# Altium integrated library Connectors.IntLib: 45 symbols
Pins are listed as number, name and electrical type; pins without a type are passive.

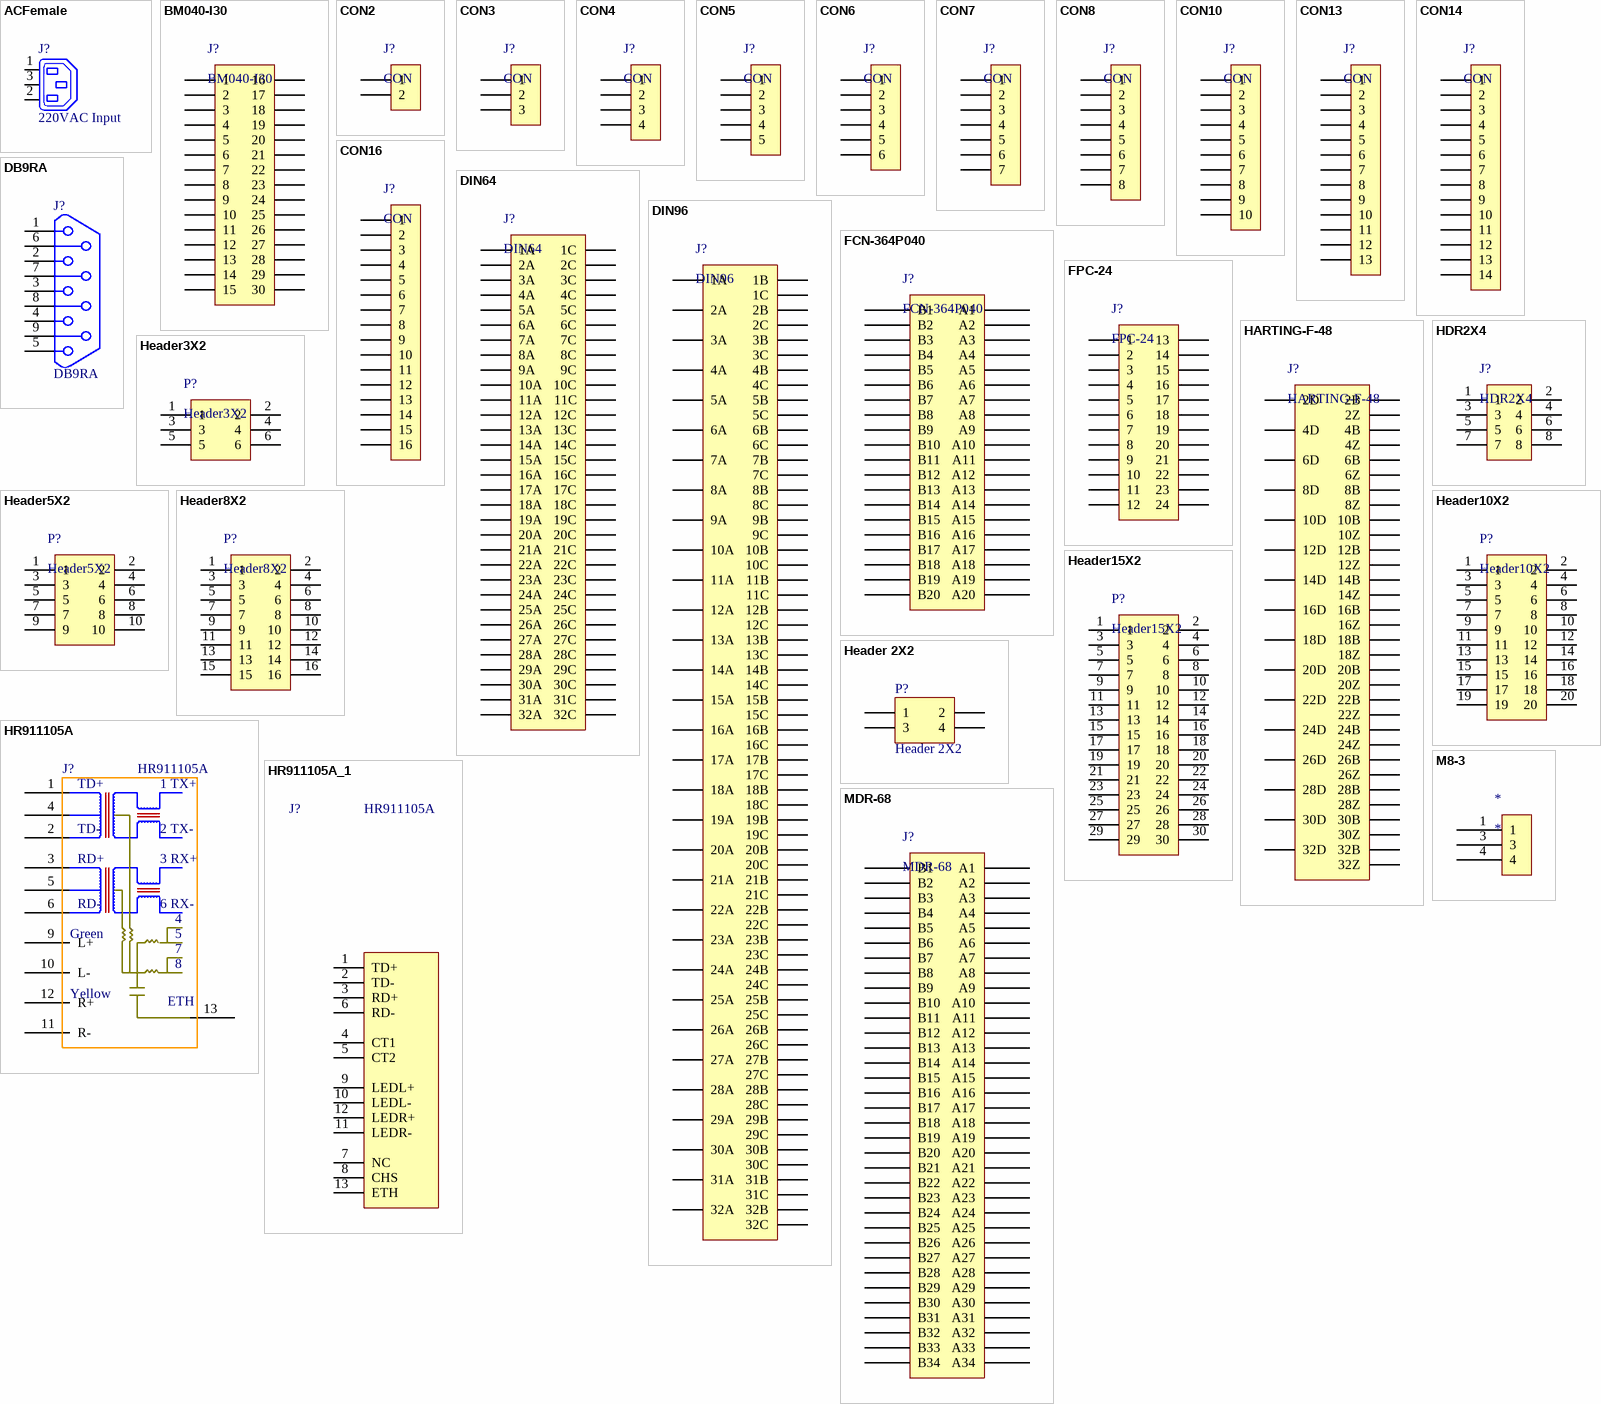
[diagram p0: symbols ACFemale to MDR-68]

## ACFemale
designator J?, comment 220VAC Input
IEC Mains Power Outlet, EN60 320-2-2 F Class I, PC Flange Rear Mount, Chassis Socket; PackageDocument: ver.80, 15-Sep-2003; MaximumRating: 10A, 250V a.c. (UL & CSA 15A, 250V a.c.); MountingFixtures: Not drawn on schematic symbol.; PCB_Layout: Complies with manufacturer's recommendation.; DrillSize: Corresponds to nominal value.; Published: 15-Jul-2004; LatestRevisionDate: 15-Jul-2004; LatestRevisionNote: Component Replaced & renamed from "Phonejack".; DatasheetDocument: ver.80, 15-Sep-2003; PackageReference: PX0675/PC; Publisher: Altium Limited; Terminations: P.C. Spills; ComponentLink1Description: Manufacturer Link; ComponentLink1URL: http://www.bulgin.co.uk/
footprint ACFemale (Plug AC Female)
pins: 1 L (power) "Live (Active)", 2 N (power) "Neutral", 3 E (power) "Earth (Ground)"

## BM040-I30
designator J?
footprint BM040-I30-F
footprint BM040-I30-M
pins: 1, 2, 3, 4, 5, 6, 7, 8, 9, 10, 11, 12, 13, 14, 15, 16, 17, 18, 19, 20, 21, 22, 23, 24, 25, 26, 27, 28, 29, 30

## CON2
designator J?, comment CON
footprint CON2 (connector ,2Pin,5.08mm)
footprint T-2 (RESET 2)
footprint TS-2 (1.6*0.8mm)
footprint CON2-L (connector ,2Pin,5.08mm)
footprint HDR2 (connector ,2Pin,5.08mm)
footprint CON2-T (connector ,2Pin,5.08mm)
footprint CON2-K (connector ,2Pin,5.08mm)
footprint KF2510-2P
pins: 1, 2

## CON3
designator J?, comment CON
footprint CON3 (connector ,3Pin,5mm)
footprint KF2510-3P
pins: 1, 2, 3

## CON4
designator J?, comment CON
footprint CON4 (connector ,3Pin,5mm)
footprint FPC-1.0-4-S
footprint CON4-L
footprint KF2510-4P
footprint BIG-4P-5.08-1.27
footprint J-F-2.54-4-B (SIP; 4 Lead RightAngle; Pitch 2.54mm;)
pins: 1, 2, 3, 4

## CON5
designator J?, comment CON
footprint CON5 (connector ,5Pin,5mm)
footprint KF2510-5P
pins: 1, 2, 3, 4, 5

## CON6
designator J?, comment CON
footprint CON6 (connector ,3Pin,5mm)
footprint KF2510-6P
pins: 1, 2, 3, 4, 5, 6

## CON7
designator J?, comment CON
footprint CON7-K (connector ,7Pin,5.08mm)
pins: 1, 2, 3, 4, 5, 6, 7

## CON8
designator J?, comment CON
footprint CON8 (connector ,8Pin,5.08mm)
pins: 1, 2, 3, 4, 5, 6, 7, 8

## CON10
designator J?, comment CON
footprint CON10-T (connector ,2Pin,5.08mm)
footprint CON10-K (connector ,2Pin,5.08mm)
pins: 1, 2, 3, 4, 5, 6, 7, 8, 9, 10

## CON13
designator J?, comment CON
footprint CONL13 (connector ,8Pin,5.08mm)
pins: 1, 2, 3, 4, 5, 6, 7, 8, 9, 10, 11, 12, 13

## CON14
designator J?, comment CON
footprint CONL14 (connector ,14Pin,3.81mm)
footprint CONL14-M (connector ,14Pin,3.81mm)
pins: 1, 2, 3, 4, 5, 6, 7, 8, 9, 10, 11, 12, 13, 14

## CON16
designator J?, comment CON
footprint CONL16 (connector ,16Pin,3.81mm)
footprint CONL16-M (connector ,16Pin,3.81mm)
pins: 1, 2, 3, 4, 5, 6, 7, 8, 9, 10, 11, 12, 13, 14, 15, 16

## DB9RA
designator J?
footprint DB9RA/F (DB9RA/M FEMALE)
footprint DB9RA/M (DB9RA/M MALE)
footprint DB9/F
footprint DB9/M
pins: 1, 2, 3, 4, 5, 6, 7, 8, 9

## DIN64
designator J?
footprint DIN64RA
footprint DIN64/F
pins: 1A, 1C, 2A, 2C, 3A, 3C, 4A, 4C, 5A, 5C, 6A, 6C, 7A, 7C, 8A, 8C, 9A, 9C, 10A, 10C, 11A, 11C, 12A, 12C, 13A, 13C, 14A, 14C, 15A, 15C, 16A, 16C, 17A, 17C, 18A, 18C, 19A, 19C, 20A, 20C, 21A, 21C, 22A, 22C, 23A, 23C, 24A, 24C, 25A, 25C, 26A, 26C, 27A, 27C, 28A, 28C, 29A, 29C, 30A, 30C, 31A, 31C, 32A, 32C

## DIN96
designator J?
footprint DIN96/M
footprint DIN96RA
pins: 1A, 1B, 1C, 2A, 2B, 2C, 3A, 3B, 3C, 4A, 4B, 4C, 5A, 5B, 5C, 6A, 6B, 6C, 7A, 7B, 7C, 8A, 8B, 8C, 9A, 9B, 9C, 10A, 10B, 10C, 11A, 11B, 11C, 12A, 12B, 12C, 13A, 13B, 13C, 14A, 14B, 14C, 15A, 15B, 15C, 16A, 16B, 16C, 17A, 17B, 17C, 18A, 18B, 18C, 19A, 19B, 19C, 20A, 20B, 20C, 21A, 21B, 21C, 22A, 22B, 22C, 23A, 23B, 23C, 24A, 24B, 24C, 25A, 25B, 25C, 26A, 26B, 26C, 27A, 27B, 27C, 28A, 28B, 28C, 29A, 29B, 29C, 30A, 30B, 30C, 31A, 31B, 31C, 32A, 32B, 32C

## FCN-364P040
designator J?
footprint FCN-364P040
pins: A1, A2, A3, A4, A5, A6, A7, A8, A9, A10, A11, A12, A13, A14, A15, A16, A17, A18, A19, A20, B1, B2, B3, B4, B5, B6, B7, B8, B9, B10, B11, B12, B13, B14, B15, B16, B17, B18, B19, B20

## FPC-24
designator J?
footprint FPC-24
pins: 1, 2, 3, 4, 5, 6, 7, 8, 9, 10, 11, 12, 13, 14, 15, 16, 17, 18, 19, 20, 21, 22, 23, 24

## HARTING-F-48
designator J?
footprint DIN48RA
footprint F 09 06 048 2905 (Harting Type F 09 06 048 2905)
footprint F 09 06 248 6834 (Harting Type F 09 06 248 6834)
pins: 2B, 2D, 2Z, 4B, 4D, 4Z, 6B, 6D, 6Z, 8B, 8D, 8Z, 10B, 10D, 10Z, 12B, 12D, 12Z, 14B, 14D, 14Z, 16B, 16D, 16Z, 18B, 18D, 18Z, 20B, 20D, 20Z, 22B, 22D, 22Z, 24B, 24D, 24Z, 26B, 26D, 26Z, 28B, 28D, 28Z, 30B, 30D, 30Z, 32B, 32D, 32Z

## HDR2X4
designator J?
HDR2X4 5.08mm
footprint HDR2X4 (HDR2X4 5.08mm)
pins: 1, 2, 3, 4, 5, 6, 7, 8

## Header3X2
designator P?
footprint SEK2X3 (Connector; Header; 3x2 Position)
pins: 1, 2, 3, 4, 5, 6

## Header5X2
designator P?
footprint SEK2X5 (Connector; Header; 5x2 Position)
footprint SEK2X5-L (Connector; Header; 5x2 Position)
footprint SEK2X5-L-1 (Connector; Header; 5x2 Position)
pins: 1, 2, 3, 4, 5, 6, 7, 8, 9, 10

## Header8X2
designator P?
Header10X2
footprint SEK2X8 (Connector; Header; 2X8 Position)
pins: 1, 2, 3, 4, 5, 6, 7, 8, 9, 10, 11, 12, 13, 14, 15, 16

## Header10X2
designator P?
footprint HDR2X10 (Connector; Header; 10x2 Position)
footprint SEK2X10 (Connector; Header; 10x2 Position)
pins: 1, 2, 3, 4, 5, 6, 7, 8, 9, 10, 11, 12, 13, 14, 15, 16, 17, 18, 19, 20

## Header15X2
designator P?
footprint SEK2X15 (Connector; Header; 15x2 Position)
pins: 1, 2, 3, 4, 5, 6, 7, 8, 9, 10, 11, 12, 13, 14, 15, 16, 17, 18, 19, 20, 21, 22, 23, 24, 25, 26, 27, 28, 29, 30

## Header 2X2
designator P?
Header, 2-Pin, Dual row; LatestRevisionDate: 17-Jul-2002; LatestRevisionNote: Re-released for DXP Platform.; Publisher: Altium Limited
footprint HDR2X2
pins: 1, 2, 3, 4

## HR911105A
designator J?
footprint HR911105A
pins: 1, 2, 3, 4, 5, 6, 9 L+, 10 L-, 11 R-, 12 R+, 13
text: TD+; 1 TX+; TD-; 2 TX-; RD+; 3 RX+; RD-; 6 RX-; Green; 7; 8; Yellow; ETH

## HR911105A_1
designator J?, comment HR911105A
footprint HR911105A
pins: 1 TD+, 2 TD-, 3 RD+, 4 CT1, 5 CT2, 6 RD-, 7 NC, 8 CHS, 9 LEDL+, 10 LEDL-, 11 LEDR-, 12 LEDR+, 13 ETH

## M8-3
designator *
footprint M8-3
footprint M8-3H
pins: 1, 3, 4

## MDR-68
designator J?
footprint MDR-68-F
pins: A1, A2, A3, A4, A5, A6, A7, A8, A9, A10, A11, A12, A13, A14, A15, A16, A17, A18, A19, A20, A21, A22, A23, A24, A25, A26, A27, A28, A29, A30, A31, A32, A33, A34, B1, B2, B3, B4, B5, B6, B7, B8, B9, B10, B11, B12, B13, B14, B15, B16, B17, B18, B19, B20, B21, B22, B23, B24, B25, B26, B27, B28, B29, B30, B31, B32, B33, B34

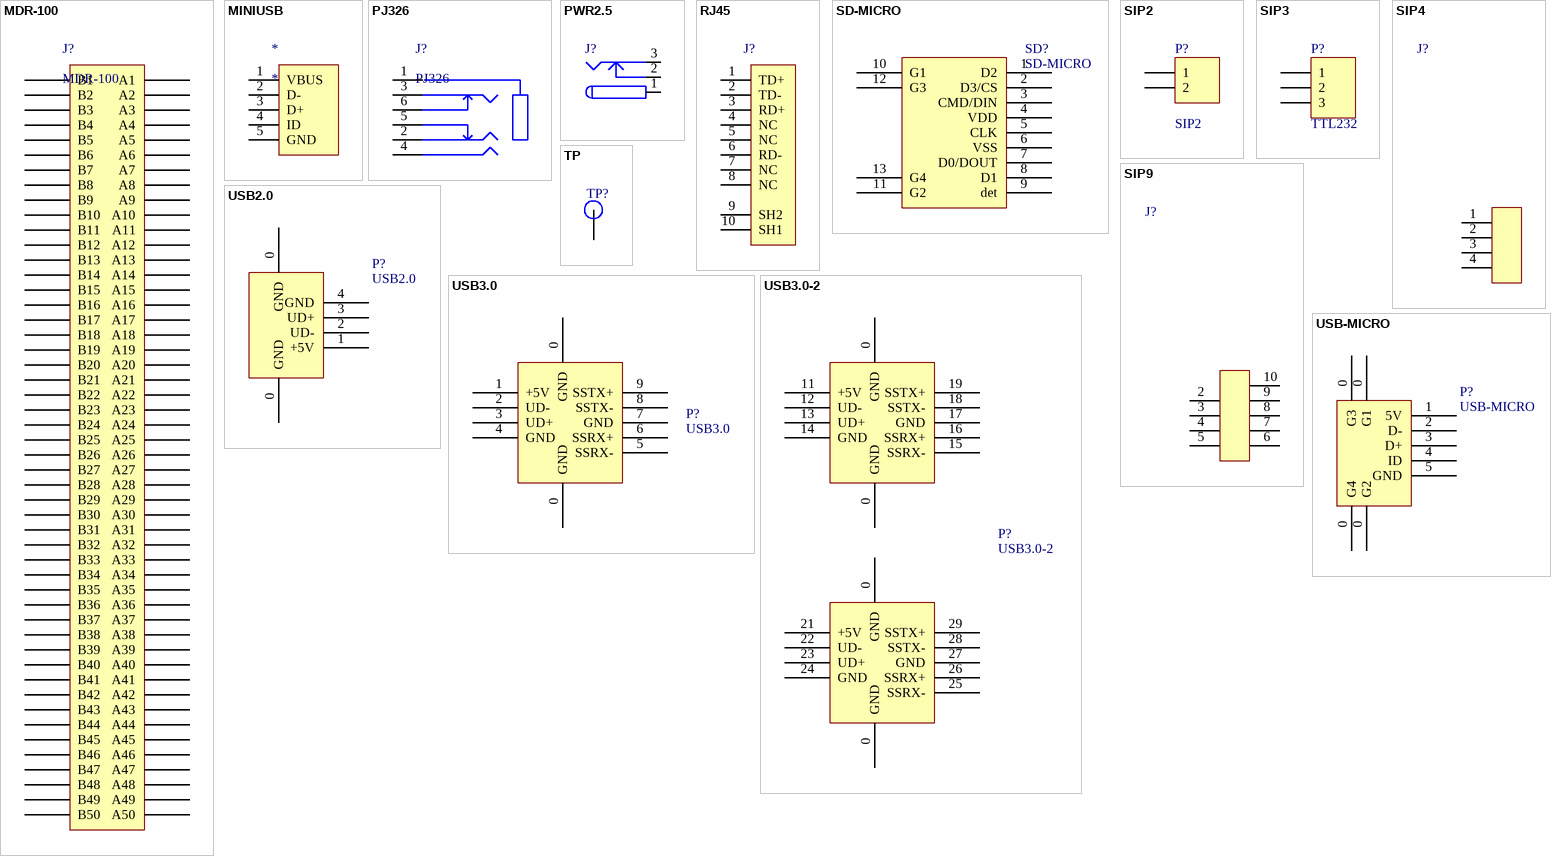
[diagram p1: symbols MDR-100 to USB-MICRO]

## MDR-100
designator J?
footprint MDR-100-M
pins: A1, A2, A3, A4, A5, A6, A7, A8, A9, A10, A11, A12, A13, A14, A15, A16, A17, A18, A19, A20, A21, A22, A23, A24, A25, A26, A27, A28, A29, A30, A31, A32, A33, A34, A35, A36, A37, A38, A39, A40, A41, A42, A43, A44, A45, A46, A47, A48, A49, A50, B1, B2, B3, B4, B5, B6, B7, B8, B9, B10, B11, B12, B13, B14, B15, B16, B17, B18, B19, B20, B21, B22, B23, B24, B25, B26, B27, B28, B29, B30, B31, B32, B33, B34, B35, B36, B37, B38, B39, B40, B41, B42, B43, B44, B45, B46, B47, B48, B49, B50

## MINIUSB
designator *
footprint USBfoot
pins: 1 VBUS, 2 D-, 3 D+, 4 ID, 5 GND

## PJ326
designator J?
footprint PJ326 (3.5mm)
pins: 1, 2, 3, 4, 5, 6

## PWR2.5
designator J?
Low Voltage Power Supply Connector; Published: 17-Dec-2003; DatasheetDocument: 09-May-2002; Publisher: Altium Limited; ComponentLink1Description: Manufacturer Link; ComponentLink1URL: http://domino.kycon.com/internet/Products.html
footprint PWR2.5
pins: 1, 2, 3

## RJ45
designator J?  (value not drawn)
footprint RJ45
pins: 1 TD+, 2 TD-, 3 RD+, 4 NC, 5 NC, 6 RD-, 7 NC, 8 NC, 9 SH2, 10 SH1

## SD-MICRO
designator SD?
footprint TFP09-2-12B
pins: 1 D2, 2 D3/CS, 3 CMD/DIN, 4 VDD, 5 CLK, 6 VSS, 7 D0/DOUT, 8 D1, 9 det, 10 G1 (power), 11 G2 (power), 12 G3 (power), 13 G4 (power)

## SIP2
designator P?
footprint SIP-2-2.54
pins: 1, 2

## SIP3
designator P?, comment TTL232
SIP3
footprint SIP3
pins: 1, 2, 3

## SIP4
designator J?
SIP4
footprint HDR-4H (单排弯脚排针，4脚)
pins: 1, 2, 3, 4

## SIP9
designator J?
footprint HDR-5X2H (双排弯脚排针，5x2脚)
pins: 2, 3, 4, 5, 6, 7, 8, 9, 10

## TP
designator TP?  (value not drawn)
footprint TP (test)
pins: 1

## USB2.0
designator P?
USB Port
footprint USB2.0-1
footprint USB2.0-A/S_A (A型直插母头)
pins: 0 GND (power), 0 GND (power), 1 +5V, 2 UD-, 3 UD+, 4 GND

## USB3.0
designator P?
USB3.0 Port
footprint USB3.0-1
pins: 0 GND (power), 0 GND (power), 1 +5V (power), 2 UD-, 3 UD+, 4 GND (power), 5 SSRX- (power), 6 SSRX+ (power), 7 GND, 8 SSTX-, 9 SSTX+ (power)

## USB3.0-2
designator P?
USB3.0 Port - 2
footprint USB3.0-2-90D
pins: 0 GND (power), 0 GND (power), 0 GND (power), 0 GND (power), 11 +5V (power), 12 UD-, 13 UD+, 14 GND (power), 15 SSRX- (power), 16 SSRX+ (power), 17 GND, 18 SSTX-, 19 SSTX+ (power), 21 +5V (power), 22 UD-, 23 UD+, 24 GND (power), 25 SSRX- (power), 26 SSRX+ (power), 27 GND, 28 SSTX-, 29 SSTX+ (power)

## USB-MICRO
designator P?
footprint USB-MICRO (USB方孔)
pins: 0 G1 (power), 0 G2 (power), 0 G3 (power), 0 G4 (power), 1 5V, 2 D-, 3 D+, 4 ID, 5 GND